# EAGLE library part SUPER_BUSTER (library Amiga)
SUPER BUSTER-4145-(390539-0X) for A3000(T) and A4000(T)
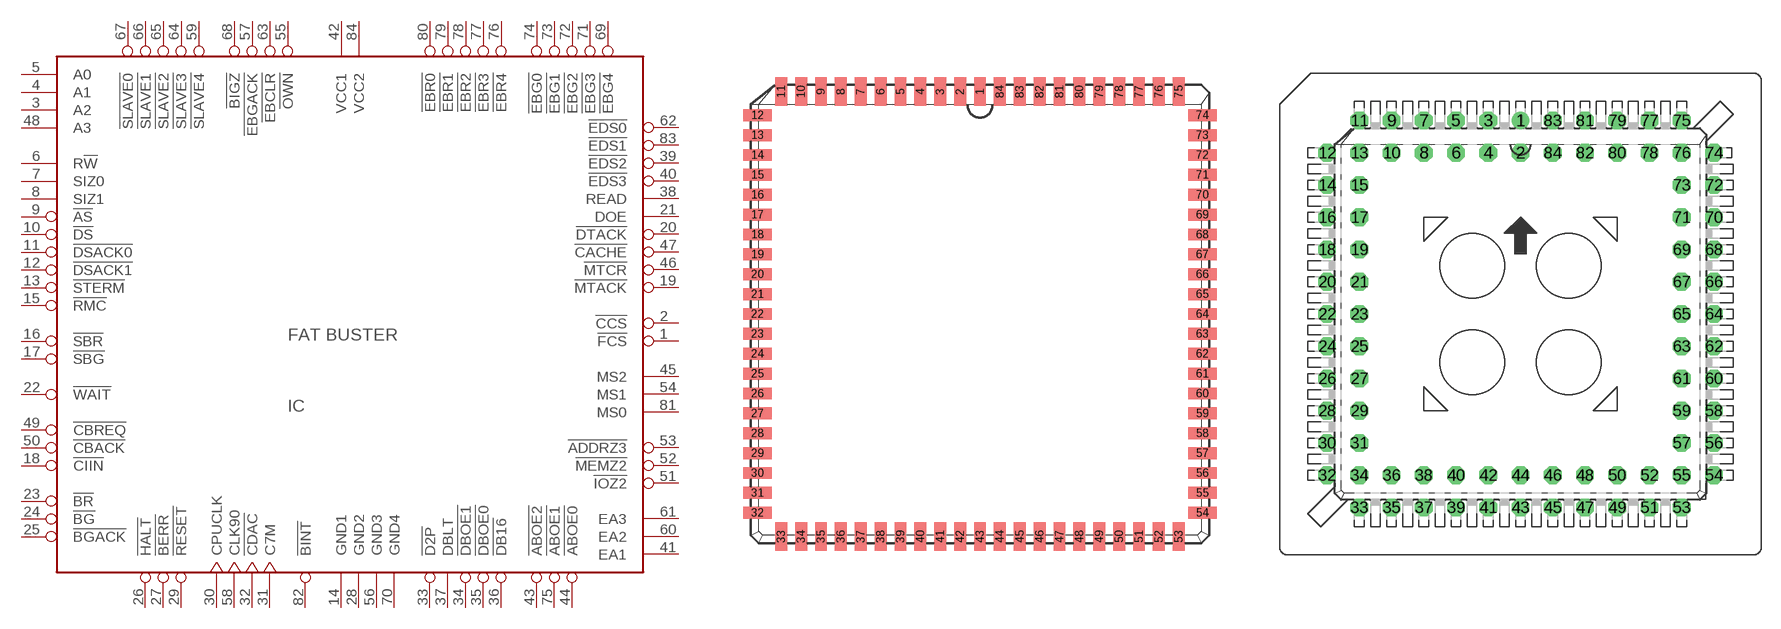
[diagram p23: symbol with the pads of PLCC84_S; footprints PLCC84_S, PLCC84_T]

Designator prefix IC

## SUPER_BUSTER_SMD  [PLCC84_S]
1  !FCS
2  !CCS
3  A2  in
4  A1  in
5  A0  in
6  R!W
7  SIZ0
8  SIZ1
9  !AS
10  !DS
11  !DSACK0
12  !DSACK1
13  !STERM  in
14  GND1  pwr
15  !RMC  in
16  !SBR  in
17  !SBG  out
18  !CIIN  out
19  !MTACK
20  !DTACK
21  DOE  out
22  !WAIT  in
23  !BR  out
24  !BG  in
25  !BGACK  out
26  !HALT  in
27  !BERR  out
28  GND2  pwr
29  !RESET  in
30  CPUCLK  in
31  C7M  in
32  !CDAC  in
33  !D2P  out
34  !DBOE1  out
35  !DBOE0  out
36  !DB16  out
37  DBLT  out
38  READ
39  !EDS2
40  !EDS3
41  EA1  in
42  VCC1  pwr
43  !ABOE2  in
44  !ABOE0  in
45  MS2  in
46  !MTCR
47  !CACHE  in
48  A3  in
49  !CBREQ  in
50  !CBACK  out
51  !IOZ2  out
52  !MEMZ2  out
53  !ADDRZ3  out
54  MS1  in
55  !OWN  in
56  GND3  pwr
57  !EBGACK  out
58  CLK90  in
59  !SLAVE4  in
60  EA2  in
61  EA3  in
62  !EDS0
63  !EBCLR  out
64  !SLAVE3  in
65  !SLAVE2  in
66  !SLAVE1  in
67  !SLAVE0  in
68  !BIGZ  out
69  !EBG4  out
70  GND4  pwr
71  !EBG3  out
72  !EBG2  out
73  !EBG1  out
74  !EBG0  out
75  !ABOE1  in
76  !EBR4  in
77  !EBR3  in
78  !EBR2  in
79  !EBR1  in
80  !EBR0  in
81  MS0  in
82  !BINT  in
83  !EDS1
84  VCC2  pwr

## SUPER_BUSTER_THT  [PLCC84_T]
Pads as for PLCC84_S

## SUPER_BUSTER_SMD_SNAP_ON  [PLCC84_S_R]
Pads as for PLCC84_S

## SUPER_BUSTER_THT_SNAP_ON  [PLCC84_T_R]
Pads as for PLCC84_S

## Footprint PLCC84_S (pad centres in mm)
PLASTIC LEADED CHIP CARRIER square
smd 0.76 x 1.8: 1 0,14.21; 2 -1.27,14.21; 3 -2.54,14.21; 4 -3.81,14.21; 5 -5.08,14.21; 6 -6.35,14.21; 7 -7.62,14.21; 8 -8.89,14.21; 9 -10.16,14.21; 10 -11.43,14.21; 11 -12.7,14.21; 33 -12.7,-14.21; 34 -11.43,-14.21; 35 -10.16,-14.21; 36 -8.89,-14.21; 37 -7.62,-14.21; 38 -6.35,-14.21; 39 -5.08,-14.21; 40 -3.81,-14.21; 41 -2.54,-14.21; 42 -1.27,-14.21; 43 0,-14.21; 44 1.27,-14.21; 45 2.54,-14.21; 46 3.81,-14.21; 47 5.08,-14.21; 48 6.35,-14.21; 49 7.62,-14.21; 50 8.89,-14.21; 51 10.16,-14.21; 52 11.43,-14.21; 53 12.7,-14.21; 75 12.7,14.21; 76 11.43,14.21; 77 10.16,14.21; 78 8.89,14.21; 79 7.62,14.21; 80 6.35,14.21; 81 5.08,14.21; 82 3.81,14.21; 83 2.54,14.21; 84 1.27,14.21
smd 1.8 x 0.76: 12 -14.21,12.7; 13 -14.21,11.43; 14 -14.21,10.16; 15 -14.21,8.89; 16 -14.21,7.62; 17 -14.21,6.35; 18 -14.21,5.08; 19 -14.21,3.81; 20 -14.21,2.54; 21 -14.21,1.27; 22 -14.21,0; 23 -14.21,-1.27; 24 -14.21,-2.54; 25 -14.21,-3.81; 26 -14.21,-5.08; 27 -14.21,-6.35; 28 -14.21,-7.62; 29 -14.21,-8.89; 30 -14.21,-10.16; 31 -14.21,-11.43; 32 -14.21,-12.7; 54 14.21,-12.7; 55 14.21,-11.43; 56 14.21,-10.16; 57 14.21,-8.89; 58 14.21,-7.62; 59 14.21,-6.35; 60 14.21,-5.08; 61 14.21,-3.81; 62 14.21,-2.54; 63 14.21,-1.27; 64 14.21,0; 65 14.21,1.27; 66 14.21,2.54; 67 14.21,3.81; 68 14.21,5.08; 69 14.21,6.35; 70 14.21,7.62; 71 14.21,8.89; 72 14.21,10.16; 73 14.21,11.43; 74 14.21,12.7

## Footprint PLCC84_T (pad centres in mm)
PLASTIC LEADED CHIP CARRIER square
drill 0.7 pad 1.4: 1 0,15.24
drill 0.7 pad 1.4 octagon: 2 0,12.7; 3 -2.54,15.24; 4 -2.54,12.7; 5 -5.08,15.24; 6 -5.08,12.7; 7 -7.62,15.24; 8 -7.62,12.7; 9 -10.16,15.24; 10 -10.16,12.7; 11 -12.7,15.24; 12 -15.24,12.7; 13 -12.7,12.7; 14 -15.24,10.16; 15 -12.7,10.16; 16 -15.24,7.62; 17 -12.7,7.62; 18 -15.24,5.08; 19 -12.7,5.08; 20 -15.24,2.54; 21 -12.7,2.54; 22 -15.24,0; 23 -12.7,0; 24 -15.24,-2.54; 25 -12.7,-2.54; 26 -15.24,-5.08; 27 -12.7,-5.08; 28 -15.24,-7.62; 29 -12.7,-7.62; 30 -15.24,-10.16; 31 -12.7,-10.16; 32 -15.24,-12.7; 33 -12.7,-15.24; 34 -12.7,-12.7; 35 -10.16,-15.24; 36 -10.16,-12.7; 37 -7.62,-15.24; 38 -7.62,-12.7; 39 -5.08,-15.24; 40 -5.08,-12.7; 41 -2.54,-15.24; 42 -2.54,-12.7; 43 0,-15.24; 44 0,-12.7; 45 2.54,-15.24; 46 2.54,-12.7; 47 5.08,-15.24; 48 5.08,-12.7; 49 7.62,-15.24; 50 7.62,-12.7; 51 10.16,-15.24; 52 10.16,-12.7; 53 12.7,-15.24; 54 15.24,-12.7; 55 12.7,-12.7; 56 15.24,-10.16; 57 12.7,-10.16; 58 15.24,-7.62; 59 12.7,-7.62; 60 15.24,-5.08; 61 12.7,-5.08; 62 15.24,-2.54; 63 12.7,-2.54; 64 15.24,0; 65 12.7,0; 66 15.24,2.54; 67 12.7,2.54; 68 15.24,5.08; 69 12.7,5.08; 70 15.24,7.62; 71 12.7,7.62; 72 15.24,10.16; 73 12.7,10.16; 74 15.24,12.7; 75 12.7,15.24; 76 12.7,12.7; 77 10.16,15.24; 78 10.16,12.7; 79 7.62,15.24; 80 7.62,12.7; 81 5.08,15.24; 82 5.08,12.7; 83 2.54,15.24; 84 2.54,12.7

## Footprint PLCC84_S_R (pad centres in mm)
PLASTIC LEADED CHIP CARRIER SMD socket to be mounted from the solder side for piggy-back onto existing motherboard chip
smd 0.6 x 2.2 bottom: 1 0,14.5; 2 -1.27,14.5; 3 -2.54,14.5; 4 -3.81,14.5; 5 -5.08,14.5; 6 -6.35,14.5; 7 -7.62,14.5; 8 -8.89,14.5; 9 -10.16,14.5; 10 -11.43,14.5; 11 -12.7,14.5; 33 -12.7,-14.5; 34 -11.43,-14.5; 35 -10.16,-14.5; 36 -8.89,-14.5; 37 -7.62,-14.5; 38 -6.35,-14.5; 39 -5.08,-14.5; 40 -3.81,-14.5; 41 -2.54,-14.5; 42 -1.27,-14.5; 43 0,-14.5; 44 1.27,-14.5; 45 2.54,-14.5; 46 3.81,-14.5; 47 5.08,-14.5; 48 6.35,-14.5; 49 7.62,-14.5; 50 8.89,-14.5; 51 10.16,-14.5; 52 11.43,-14.5; 53 12.7,-14.5; 75 12.7,14.5; 76 11.43,14.5; 77 10.16,14.5; 78 8.89,14.5; 79 7.62,14.5; 80 6.35,14.5; 81 5.08,14.5; 82 3.81,14.5; 83 2.54,14.5; 84 1.27,14.5
smd 2.2 x 0.6 bottom: 12 -14.5,12.7; 13 -14.5,11.43; 14 -14.5,10.16; 15 -14.5,8.89; 16 -14.5,7.62; 17 -14.5,6.35; 18 -14.5,5.08; 19 -14.5,3.81; 20 -14.5,2.54; 21 -14.5,1.27; 22 -14.5,0; 23 -14.5,-1.27; 24 -14.5,-2.54; 25 -14.5,-3.81; 26 -14.5,-5.08; 27 -14.5,-6.35; 28 -14.5,-7.62; 29 -14.5,-8.89; 30 -14.5,-10.16; 31 -14.5,-11.43; 32 -14.5,-12.7; 54 14.5,-12.7; 55 14.5,-11.43; 56 14.5,-10.16; 57 14.5,-8.89; 58 14.5,-7.62; 59 14.5,-6.35; 60 14.5,-5.08; 61 14.5,-3.81; 62 14.5,-2.54; 63 14.5,-1.27; 64 14.5,0; 65 14.5,1.27; 66 14.5,2.54; 67 14.5,3.81; 68 14.5,5.08; 69 14.5,6.35; 70 14.5,7.62; 71 14.5,8.89; 72 14.5,10.16; 73 14.5,11.43; 74 14.5,12.7

## Footprint PLCC84_T_R (pad centres in mm)
MIRRORED PLCC SOCKET For piggy-back usage, mounted on solder side Filled arrow shows socket pin1 indicator, hollow arrow point to actual chip pin1
drill 0.813 octagon: 1 0,15.24; 2 -2.54,12.7; 3 -2.54,15.24; 4 -5.08,12.7; 5 -5.08,15.24; 6 -7.62,12.7; 7 -7.62,15.24; 8 -10.16,12.7; 9 -10.16,15.24; 10 -12.7,12.7; 11 -12.7,15.24; 12 -15.24,12.7; 13 -12.7,10.16; 14 -15.24,10.16; 15 -12.7,7.62; 16 -15.24,7.62; 17 -12.7,5.08; 18 -15.24,5.08; 19 -12.7,2.54; 20 -15.24,2.54; 21 -12.7,0; 23 -12.7,-2.54; 24 -15.24,-2.54; 25 -12.7,-5.08; 26 -15.24,-5.08; 27 -12.7,-7.62; 28 -15.24,-7.62; 29 -12.7,-10.16; 30 -15.24,-10.16; 31 -12.7,-12.7; 32 -15.24,-12.7; 33 -12.7,-15.24; 34 -10.16,-12.7; 35 -10.16,-15.24; 36 -7.62,-12.7; 37 -7.62,-15.24; 38 -5.08,-12.7; 39 -5.08,-15.24; 40 -2.54,-12.7; 41 -2.54,-15.24; 42 0,-12.7; 43 0,-15.24; 44 2.54,-12.7; 45 2.54,-15.24; 46 5.08,-12.7; 47 5.08,-15.24; 48 7.62,-12.7; 49 7.62,-15.24; 50 10.16,-12.7; 51 10.16,-15.24; 52 12.7,-12.7; 53 12.7,-15.24; 54 15.24,-12.7; 55 12.7,-10.16; 56 15.24,-10.16; 57 12.7,-7.62; 58 15.24,-7.62; 59 12.7,-5.08; 60 15.24,-5.08; 61 12.7,-2.54; 62 15.24,-2.54; 63 12.7,0; 64 15.24,0; 65 12.7,2.54; 66 15.24,2.54; 67 12.7,5.08; 68 15.24,5.08; 69 12.7,7.62; 70 15.24,7.62; 71 12.7,10.16; 72 15.24,10.16; 73 12.7,12.7; 74 15.24,12.7; 75 12.7,15.24; 76 10.16,12.7; 77 10.16,15.24; 78 7.62,12.7; 79 7.62,15.24; 80 5.08,12.7; 81 5.08,15.24; 82 2.54,12.7; 83 2.54,15.24; 84 0,12.7
drill 0.813: 22 -15.24,0